# Altium schematic symbol library SCH - ADC - AD ADAU1979WBCPZ.Schlib: 1 symbol
Pins are listed as number, name and electrical type; pins without a type are passive.

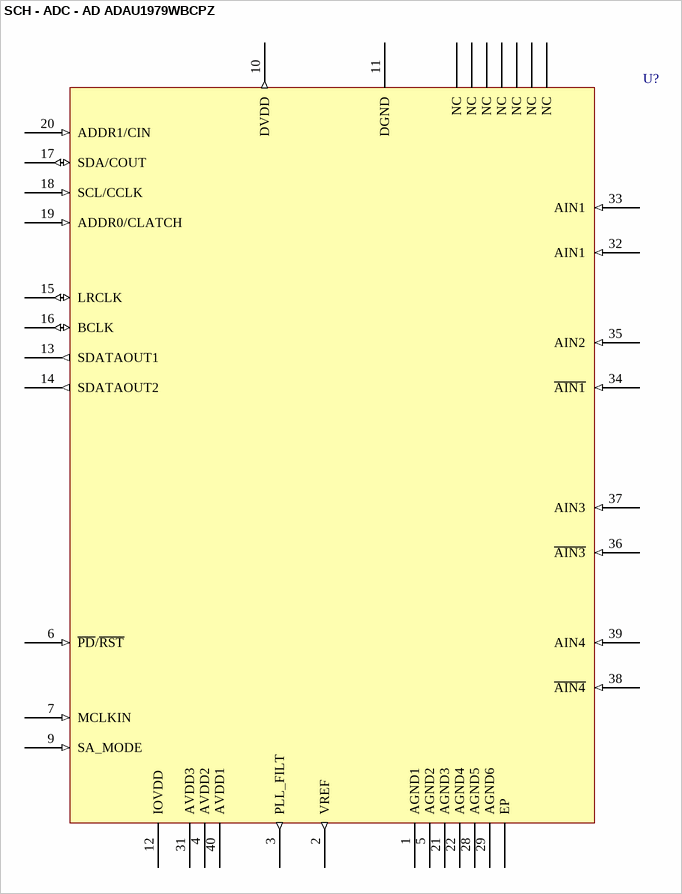
[diagram p0: symbol SCH - ADC - AD ADAU1979WBCPZ]

## SCH - ADC - AD ADAU1979WBCPZ
designator U?
footprint QFN127P600-8N, MO-220-WJJD (40-Lead Frame Chip Scale Package LFCP_WQ 6 mm x 6 mm Body, Very Very Thin Quad (CP-40-14))
pins: 1 AGND1 (power), 2 VREF (out) "Voltage Reference. Decouple VREF to AGND with a 10µF capacitor in parallel with a 100nF capacitor.", 3 PLL_FILT (out) "Phae-Locked Loop Filter. Return PLL_FILT to AVDD using recommended loop filter components.", 4 AVDD2 (power) "Analog Power Supply. Connect AVDD2 to an alalog 3.3 V supply.", 5 AGND2 (power) "Analog Ground", 6 ~{PD}/~{RST} (in) "Power-Down/Reset (Active Low)", 7 MCLKIN (in) "Master Clock Input", 8 NC "No Connect. Do not connect to these pins. Leave the NC pins open.", 9 SA_MODE (in) "Standalone Mode. Connect SA_MODE to IOVDD using a 10 kR pull-up resistor for standalone.", 10 DVDD (out) "1.8V Digital Power Supply Output. Decouuple DVDD to DGND with 100nF and 10µF capacitors", 11 DGND (power) "Digital Ground", 12 IOVDD (power) "Digital I/O Power Supply. Connect IOVDD to a supply from 1.8V to 3.3V", 13 SDATAOUT1 (out) "ADC Serial Data Output Pair 1 (ADC L1 and ADC R1)", 14 SDATAOUT2 (out) "ADC Serial Data Output Pair 2 (ADC L2 and ADC R2)", 15 LRCLK (io) "Frame Clock for ADC Serial Port", 16 BCLK (io) "Bit Clock for ADC Serial Port", 17 SDA/COUT (io) "Serial Data Input/Output (I²C)/Control Data Output (SPI)", 18 SCL/CCLK (in) "Serial Clock Input (I²C)/Control Clock Input (SPI)", 19 ADDR0/CLATCH  (in) "Chip Address Bit 0 Setting (I²C)/Chip Select Input for Control Data (SPI)", 20 ADDR1/CIN (in) "Chip Address Bit 1 Setting (I²C)/Control Data Input (SPI)", 21 AGND3 (power) "Analog Ground", 22 AGND4 (power) "Analog Ground", 23 NC "No Connect. Do not connect to these pins. Leave the NC pins open.", 24 NC "No Connect. Do not connect to these pins. Leave the NC pins open.", 25 NC "No Connect. Do not connect to these pins. Leave the NC pins open.", 26 NC "No Connect. Do not connect to these pins. Leave the NC pins open.", 27 NC "No Connect. Do not connect to these pins. Leave the NC pins open.", 28 AGND5 (power) "Analog Ground", 29 AGND6 (power) "Analog Ground", 30 NC "No Connect. Do not connect to these pins. Leave the NC pins open.", 31 AVDD3 (power) "Analog Power Supply. Connect AVDD3 to an analog 3.3V supply", 32 AIN1 (in) "Analog Input Channel 1 Inverting Input.", 33 AIN1 (in) "Analog Input Channel 1 Noninverting Input", 34 ~{AIN1} (in) "Analog Input Channel 2 Inverting Input", 35 AIN2 (in) "Analog Input Channel 2 Noninverting Input", 36 ~{AIN3} (in) "Analog Input Channel 3 Inverting Input", 37 AIN3 (in) "Analog Input Channel 3 Noninverting Input", 38 ~{AIN4} (in) "Analog Input Channel 4 Inverting Input", 39 AIN4 (in) "Analog Input Channel 4 Noninverting Input", 40 AVDD1 (power) "Analog Power Supply. Connect AVDD1 to an analog 3.3V supply.", EP (power) "Exposed Pad. The exposed pad must be connected to the ground plane on the printed circuit board (PCB)"